# EAGLE library part M25P16 (library Cynara-IntegratedCircuits)
M25P16 SPI FLASH
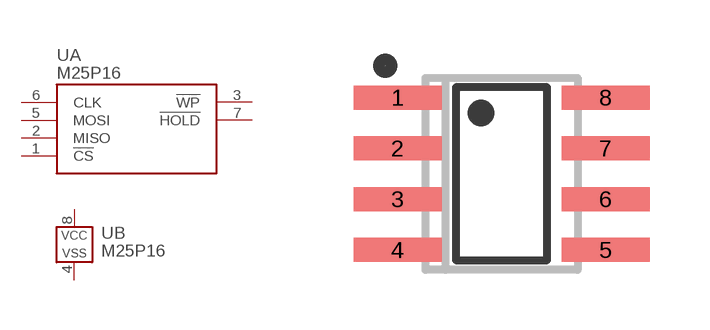
[diagram p0: symbol with the pads of SOIC127P600X120-8N; footprint SOIC127P600X120-8N]

Designator prefix U; gates A=M25P16 B=POWER_VCC-VSS

## M25P16-SO8 (MANUFACTURER: Micron; MANUFACTURERPARTNO: M25P16-VMN6P; ORDERCODE: 1734973; SUPPLIER: FARNELL; VALUE: M25P16-SO8)  [SOIC127P600X120-8N]
1  A:!CS  in
2  A:MISO  out
3  A:!WP
4  B:VSS  pwr
5  A:MOSI  in
6  A:CLK  in
7  A:!HOLD
8  B:VCC  pwr

## Footprint SOIC127P600X120-8N (pad centres in mm)
smd 2.2 x 0.6: 1 -2.6,1.905; 2 -2.6,0.635; 3 -2.6,-0.635; 4 -2.6,-1.905; 5 2.6,-1.905; 6 2.6,-0.635; 7 2.6,0.635; 8 2.6,1.905